# EAGLE library part AVX_6-PIN_009159006061916_40MIL-GAP (library Debug-Edge_AVX-connectors)
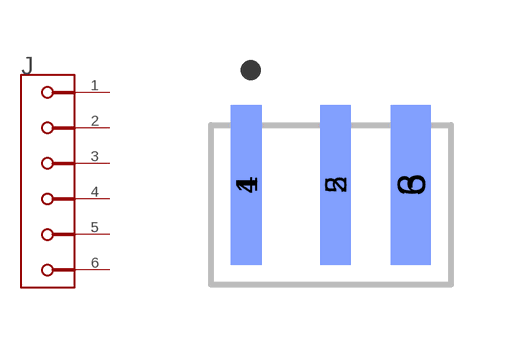
[diagram p2: symbol with the pads of AVX_6-PIN_009159006061916_40MIL-GAP; footprint AVX_6-PIN_009159006061916_40MIL-GAP]

Designator prefix J

## AVX_6-PIN_009159006061916_40MIL-GAP  [AVX_6-PIN_009159006061916_40MIL-GAP]
1  1
2  2
3  3
4  4
5  5
6  6

## Footprint AVX_6-PIN_009159006061916_40MIL-GAP (pad centres in mm)
Open Ended Card Edge: BTB
smd 0.771 x 4: 1 -2.114,2.5; 2 0.114,2.5
smd 1 x 4: 3 2,2.5
smd 0.771 x 4 bottom: 4 -2.114,2.5; 5 0.114,2.5
smd 1 x 4 bottom: 6 2,2.5